# Altium integrated library DCjack_PJ-202AH.IntLib: 1 symbol
Pins are listed as number, name and electrical type; pins without a type are passive.

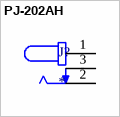
[diagram p0: symbol PJ-202AH]

## PJ-202AH
designator J?
2.0 mm Center Pin, 5.0 A, Right Angle, Through Hole, Kinked Pins, Dc Power Jack Connector; MF: {'manufacturer': u'CUI'}; MP: PJ-202AH; Price: None; Value: *; Availability: Unavailable; Package: None
footprint CUI_PJ-202AH
pins: 1, 2, 3